# Altium schematic symbol library LMC7660IM_NOPB.SchLib: 1 symbol
Pins are listed as number, name and electrical type; pins without a type are passive.

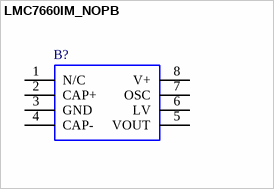
[diagram p0: symbol LMC7660IM_NOPB]

## LMC7660IM_NOPB
designator B?
1.5-V to 10-V switched capacitor voltage converter; Manufacturer_Name: Texas Instruments; Manufacturer_Part_Number: LMC7660IM/NOPB; Geometry.Height: 1.75mm; Mouser Part Number: 926-LMC7660IM/NOPB; Mouser Price/Stock: https://www.mouser.co.uk/ProductDetail/Texas-Instruments/LMC7660IM-NOPB?qs=7lkVKPoqpbZi64kwFiQ%2F%252Bg%3D%3D; Datasheet Link: http://www.ti.com/lit/ds/symlink/lmc7660.pdf
footprint SOIC127P600X175-8N
pins: 1 N/C, 2 CAP+, 3 GND, 4 CAP-, 5 VOUT, 6 LV, 7 OSC, 8 V+